# Altium schematic symbol library BC80725215.SchLib: 2 symbols
Pins are listed as number, name and electrical type; pins without a type are passive.

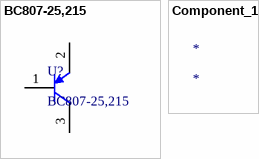
[diagram p0: symbols BC807-25,215 to Component_1]

## BC807-25,215
designator U?
No Description Available; Built_By: EMA_Justin; Vendor: Nexperia; SourceLibrary: Nexperia_2018-12-15; Copyright: Copyright (C) 2016 Accelerated Designs. All rights reserved; Manufacturer_Part_Number: BC807-25,215; RefDes: RefDes; Type: DEV
footprint SOT23_BC807_NEX
pins: 1 B, 2, 3 C

## Component_1
designator *